# EAGLE library part LM2675M (library ECE477)
LM2675M Switch-Mode Voltage Regulator SIMPLE SWITCHER® Power Converter High Efficiency 1A Step-Down Voltage Regulator
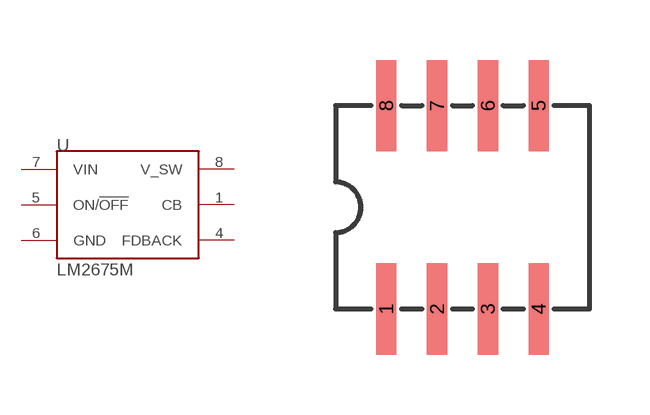
[diagram p0: symbol with the pads of SOIC-8-LM2675; footprint SOIC-8-LM2675]

Designator prefix -

## LM2675M  [SOIC-8-LM2675]
1  CB  in
4  FDBACK  in
5  ON/!OFF!  in
6  GND  pwr
7  VIN  pwr
8  V_SW  pwr

## Footprint SOIC-8-LM2675 (pad centres in mm)
SOIC-8 8-Pin Small Outline IC
smd 0.508 x 2.286: 1 -1.905,-2.54; 2 -0.635,-2.54; 3 0.635,-2.54; 4 1.905,-2.54; 5 1.905,2.54; 6 0.635,2.54; 7 -0.635,2.54; 8 -1.905,2.54